# Altium footprint library CAP_50V_1000uF.PcbLib: 1 footprints
Each footprint in its own frame and in the unit in brackets; x right, y up, seen from the top. Pads: shape width x height; smd on the part's side, far side on the other; paste and mask are expansions set on the pad; w line width, h text height; cw(c..) or ccw(c..) is an arc to the next point about the centre after c.
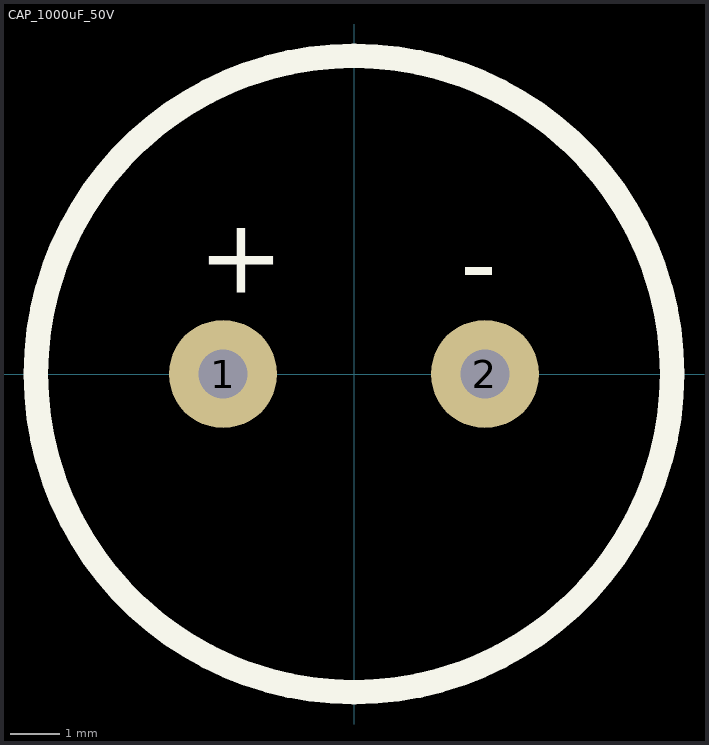
[diagram p0: the footprint, top view; thin cyan lines are the x and y axes]

## CAP_1000uF_50V [mm]
pads (2):
  round 2.2 hole 1: 1(-2.667,0) 2(2.667,0)
Top Overlay:
  circle w0.5: c0,0 r6.478
  text "-" at 2.159,1.524 h1.52
  text "+" at -3.175,1.651 h1.52
3D body "HITANO 1000uF 50V ECR85.STEP": height 25.97, standoff -4.03, extent -6.375,-6.366 6.385,6.385